# Altium schematic symbol library LARS_409_R,C,L.SCHLIB: 25 symbols
Pins are listed as number, name and electrical type; pins without a type are passive.

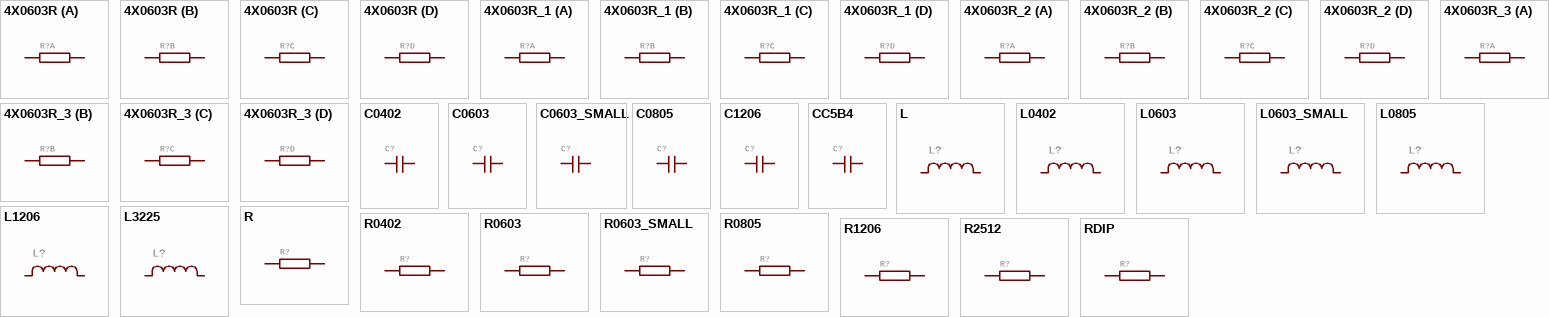
[diagram p0: symbols 4X0603R to RDIP]

## 4X0603R
designator R?
GateName_1: _1; SymbolName_1: R; GateName_2: _2; GateName_3: _3; GateName_4: _4; DeviceSetName: 4X0603R; SymbolName_2: R; SymbolName_3: R; SymbolName_4: R; LibraryName: LARS_409_R,C,L; Package: 4х0603R
footprint 4х0603R
part A pins: P$1 (io), P$2 (io)
part B pins: P$3 P$1 (io), P$4 P$2 (io)
part C pins: P$5 P$1 (io), P$6 P$2 (io)
part D pins: P$7 P$1 (io), P$8 P$2 (io)

## 4X0603R_1
designator R?
GateName_1: _1; SymbolName_1: R; GateName_2: _2; GateName_3: _3; GateName_4: _4; DeviceSetName: 4X0603R; SymbolName_2: R; SymbolName_3: R; SymbolName_4: R; LibraryName: LARS_409_R,C,L; Package: 4х0603R
footprint 4х0603R
part A pins: P$1 (io), P$2 (io)
part B pins: P$3 P$1 (io), P$4 P$2 (io)
part C pins: P$5 P$1 (io), P$6 P$2 (io)
part D pins: P$7 P$1 (io), P$8 P$2 (io)

## 4X0603R_2
designator R?
GateName_1: _1; SymbolName_1: R; GateName_2: _2; GateName_3: _3; GateName_4: _4; DeviceSetName: 4X0603R; SymbolName_2: R; SymbolName_3: R; SymbolName_4: R; LibraryName: LARS_409_R,C,L; Package: 4х0603R
footprint 4х0603R
part A pins: P$1 (io), P$2 (io)
part B pins: P$3 P$1 (io), P$4 P$2 (io)
part C pins: P$5 P$1 (io), P$6 P$2 (io)
part D pins: P$7 P$1 (io), P$8 P$2 (io)

## 4X0603R_3
designator R?
GateName_1: _1; SymbolName_1: R; GateName_2: _2; GateName_3: _3; GateName_4: _4; DeviceSetName: 4X0603R; SymbolName_2: R; SymbolName_3: R; SymbolName_4: R; LibraryName: LARS_409_R,C,L; Package: 4х0603R
footprint 4х0603R
part A pins: P$1 (io), P$2 (io)
part B pins: P$3 P$1 (io), P$4 P$2 (io)
part C pins: P$5 P$1 (io), P$6 P$2 (io)
part D pins: P$7 P$1 (io), P$8 P$2 (io)

## C0402
designator C?
GateName_1: G$1; SymbolName_1: С; DeviceName: 0402; DeviceSetName: C; LibraryName: LARS_409_R,C,L; Package: 0402
footprint 0402
pins: 1 P$1 (io), 2 P$2 (io)

## C0603
designator C?
GateName_1: G$1; SymbolName_1: С; DeviceName: 0603; DeviceSetName: C; LibraryName: LARS_409_R,C,L; Package: 0603
footprint 0603
pins: P$1 (io), P$2 (io)

## C0603_SMALL
designator C?
GateName_1: G$1; SymbolName_1: С; DeviceName: 0603_SMALL; DeviceSetName: C; LibraryName: LARS_409_R,C,L; Package: 0603_SMALL
footprint 0603_SMALL
pins: P$1 (io), P$2 (io)

## C0805
designator C?
GateName_1: G$1; SymbolName_1: С; DeviceName: 0805; DeviceSetName: C; LibraryName: LARS_409_R,C,L; Package: 0805
footprint 0805
pins: P$1 (io), P$2 (io)

## C1206
designator C?
GateName_1: G$1; SymbolName_1: С; DeviceName: 1206; DeviceSetName: C; LibraryName: LARS_409_R,C,L; Package: 1206
footprint 1206
pins: P$1 (io), P$2 (io)

## CC5B4
designator C?
GateName_1: G$1; SymbolName_1: С; DeviceName: C5B4; DeviceSetName: C; LibraryName: LARS_409_R,C,L; Package: C5B4
footprint C5B4
pins: 1 P$1 (io), 2 P$2 (io)

## L
designator L?
GateName_1: G$1; SymbolName_1: L; LibraryName: LARS_409_R,C,L; DeviceSetName: L; Package: TRACE
footprint TRACE
pins: P$1 1, P$2 2

## L0402
designator L?
GateName_1: G$1; SymbolName_1: L; DeviceName: 0402; LibraryName: LARS_409_R,C,L; DeviceSetName: L; Package: 0402
footprint 0402
pins: 1, 2

## L0603
designator L?
GateName_1: G$1; SymbolName_1: L; DeviceName: 0603; LibraryName: LARS_409_R,C,L; DeviceSetName: L; Package: 0603
footprint 0603
pins: P$1 1, P$2 2

## L0603_SMALL
designator L?
GateName_1: G$1; SymbolName_1: L; DeviceName: 0603_SMALL; LibraryName: LARS_409_R,C,L; DeviceSetName: L; Package: 0603_SMALL
footprint 0603_SMALL
pins: P$1 1, P$2 2

## L0805
designator L?
GateName_1: G$1; SymbolName_1: L; DeviceName: 0805; LibraryName: LARS_409_R,C,L; DeviceSetName: L; Package: 0805
footprint 0805
pins: P$1 1, P$2 2

## L1206
designator L?
GateName_1: G$1; SymbolName_1: L; DeviceName: 1206; LibraryName: LARS_409_R,C,L; DeviceSetName: L; Package: 1206
footprint 1206
pins: P$1 1, P$2 2

## L3225
designator L?
GateName_1: G$1; SymbolName_1: L; DeviceName: 3225; LibraryName: LARS_409_R,C,L; DeviceSetName: L; Package: 3225
footprint 3225
pins: 1, 2

## R
designator R?
GateName_1: G$1; SymbolName_1: R; LibraryName: LARS_409_R,C,L; DeviceSetName: R; Package: R_DIP_VERTICAL
footprint R_DIP_VERTICAL
pins: 1 P$1 (io), 2 P$2 (io)

## R0402
designator R?
GateName_1: G$1; SymbolName_1: R; DeviceName: 0402; LibraryName: LARS_409_R,C,L; DeviceSetName: R; Package: 0402
footprint 0402
pins: 1 P$1 (io), 2 P$2 (io)

## R0603
designator R?
GateName_1: G$1; SymbolName_1: R; DeviceName: 0603; LibraryName: LARS_409_R,C,L; DeviceSetName: R; Package: 0603
footprint 0603
pins: P$1 (io), P$2 (io)

## R0603_SMALL
designator R?
GateName_1: G$1; SymbolName_1: R; DeviceName: 0603_SMALL; LibraryName: LARS_409_R,C,L; DeviceSetName: R; Package: 0603_SMALL
footprint 0603_SMALL
pins: P$1 (io), P$2 (io)

## R0805
designator R?
GateName_1: G$1; SymbolName_1: R; DeviceName: 0805; LibraryName: LARS_409_R,C,L; DeviceSetName: R; Package: 0805
footprint 0805
pins: P$1 (io), P$2 (io)

## R1206
designator R?
GateName_1: G$1; SymbolName_1: R; DeviceName: 1206; LibraryName: LARS_409_R,C,L; DeviceSetName: R; Package: 1206
footprint 1206
pins: P$1 (io), P$2 (io)

## R2512
designator R?
GateName_1: G$1; SymbolName_1: R; DeviceName: 2512; LibraryName: LARS_409_R,C,L; DeviceSetName: R; Package: 2512
footprint 2512
pins: 1 P$1 (io), 2 P$2 (io)

## RDIP
designator R?
GateName_1: G$1; SymbolName_1: R; DeviceName: DIP; LibraryName: LARS_409_R,C,L; DeviceSetName: R; Package: RESAD896W48L600D230B
footprint RESAD896W48L600D230B
pins: 1 P$1 (io), 2 P$2 (io)